# EAGLE library part QSPI-FLASH__W25Q128JVSIM-ND (library KVM-Keyboard)
National LM3622 li-ion charger http://www.ladyada.net/library/eagle
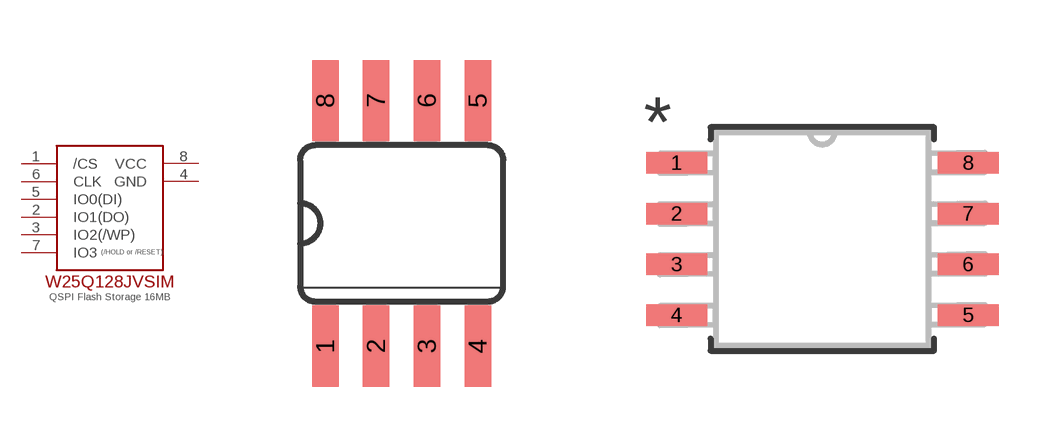
[diagram p5: symbol with the pads of SO08; footprints SO08, SOIC_128JVSIM_WIN]

Designator prefix -

## QSPI-FLASH__W25Q128JVSIM-ND  [SO08]
1  /CS  in
2  IO1(DO)
3  IO2(/WP)
4  GND  sup
5  IO0(DI)
6  CLK
7  IO3  out
8  VCC  sup

## QSPI-FLASH__W25Q128JVSIM-NDSOIC  [SOIC_128JVSIM_WIN]
Pads as for SO08

## Footprint SO08 (pad centres in mm)
smd 0.66 x 2.032: 1 -1.905,-3.073; 2 -0.635,-3.073; 3 0.635,-3.073; 4 1.905,-3.073; 5 1.905,3.073; 6 0.635,3.073; 7 -0.635,3.073; 8 -1.905,3.073

## Footprint SOIC_128JVSIM_WIN (pad centres in mm)
smd 1.524 x 0.533: 1 -3.645,1.905; 2 -3.645,0.635; 3 -3.645,-0.635; 4 -3.645,-1.905; 5 3.645,-1.905; 6 3.645,-0.635; 7 3.645,0.635; 8 3.645,1.905